# EAGLE library part 74XX-EU_74*107 (library ネオぴゅう太_ReplaceLibParts)
Dual J-K FLIP FLOP, clear
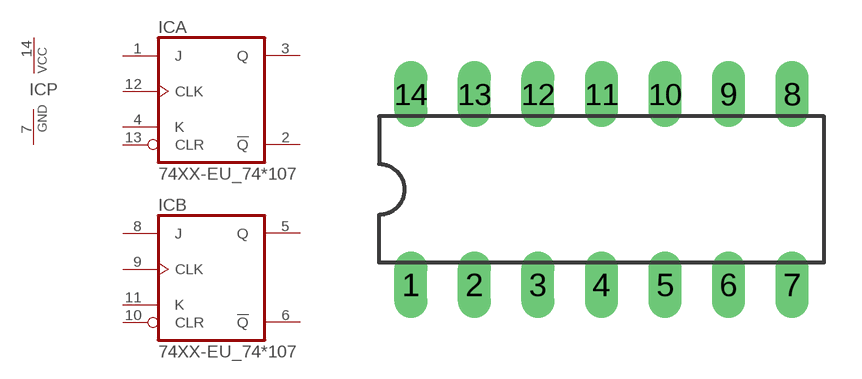
[diagram p4: symbol with the pads of 74XX-EU_DIL14; footprint 74XX-EU_DIL14]

Designator prefix IC; gates A=74XX-EU_74107 B=74XX-EU_74107 P=74XX-EU_PWRN

## 74XX-EU_74107N, 74XX-EU_74HC107N, 74XX-EU_74HCT107N, 74XX-EU_74LS107N  [74XX-EU_DIL14]
1  A:J  in
2  A:!Q  out
3  A:Q  out
4  A:K  in
5  B:Q  out
6  B:!Q  out
7  P:GND  pwr
8  B:J  in
9  B:CLK  in
10  B:CLR  in
11  B:K  in
12  A:CLK  in
13  A:CLR  in
14  P:VCC  pwr

## Footprint 74XX-EU_DIL14 (pad centres in mm)
Dual In Line Package
drill 0.813 long: 1 -7.62,-3.81; 2 -5.08,-3.81; 3 -2.54,-3.81; 4 0,-3.81; 5 2.54,-3.81; 6 5.08,-3.81; 7 7.62,-3.81; 8 7.62,3.81; 9 5.08,3.81; 10 2.54,3.81; 11 0,3.81; 12 -2.54,3.81; 13 -5.08,3.81; 14 -7.62,3.81